# Altium footprint library RAC03-xGB.PcbLib: 1 footprints
Each footprint in its own frame and in the unit in brackets; x right, y up, seen from the top. Pads: shape width x height; smd on the part's side, far side on the other; paste and mask are expansions set on the pad; w line width, h text height; cw(c..) or ccw(c..) is an arc to the next point about the centre after c.
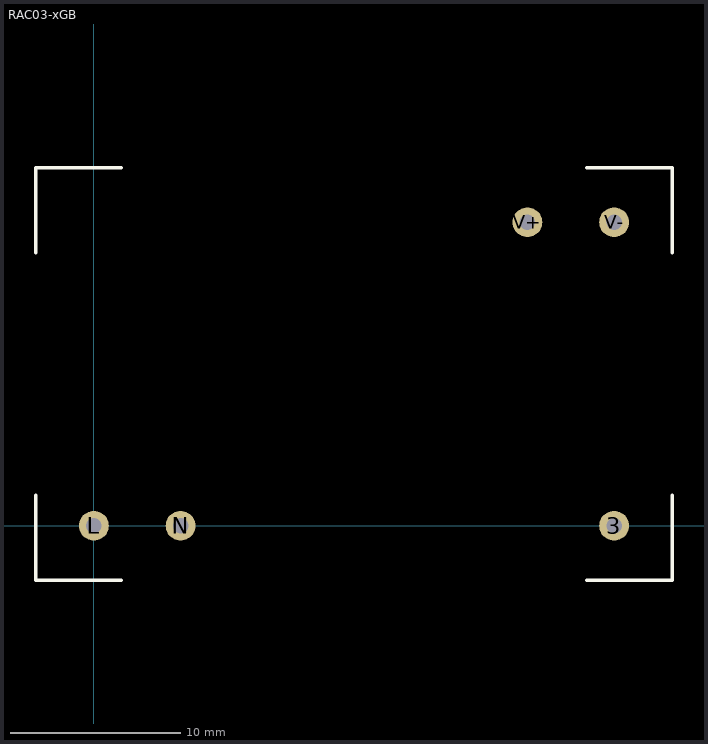
[diagram p0: the footprint, top view; thin cyan lines are the x and y axes]

## RAC03-xGB [mm] "AC-DC Converter Module"
pads (5):
  round 1.75 hole 0.9 mask+0.05: 3(30.48,0) L(0,0) N(5.08,0) V+(25.4,17.78) V-(30.48,17.78)
Top Overlay:
  lines w0.2: -3.4,1.8 -3.4,-3.2 1.6,-3.2 ; -3.4,15.98 -3.4,20.98 1.6,20.98 ; 28.88,-3.2 33.88,-3.2 33.88,1.8 ; 28.88,20.98 33.88,20.98 33.88,15.98
3D body: height 15, standoff 0, extent -3.3,-3.1 33.8,20.9